# Altium schematic symbol library SN74AHCT1G125DCKR.Schlib: 1 symbol
Pins are listed as number, name and electrical type; pins without a type are passive.

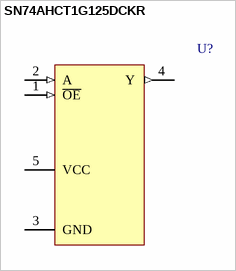
[diagram p0: symbol SN74AHCT1G125DCKR]

## SN74AHCT1G125DCKR
designator U?
pins: 1 ~{OE} (in), 2 A (in), 3 GND (power), 4 Y (out), 5 VCC (power)